# EAGLE library part MC88916 (library Custom)
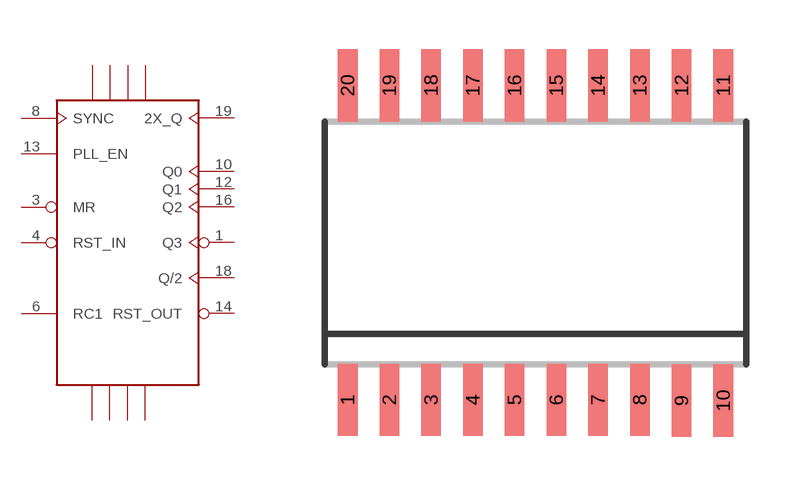
[diagram p6: symbol with the pads of SOIC20R; footprint SOIC20R]

Designator prefix -

## MC88916  [SOIC20R]
1  Q3  out
2  VCC  pwr
3  MR  in
4  RST_IN  in
5  VCC  pwr
6  RC1  out
7  GND  pwr
8  SYNC  in
9  GND  pwr
10  Q0
11  VCC  pwr
12  Q1
13  PLL_EN  in
14  RST_OUT  out
15  GND  pwr
16  Q2
17  VCC  pwr
18  Q/2
19  2X_Q  out
20  GND  pwr

## Footprint SOIC20R (pad centres in mm)
20-LeadStandard Small Outline Package SOIC Wide Body (R-20) Source: http://www.analog.com/static/imported-files/data_sheets/AD811.pdf
smd 0.6 x 2.2: 1 -5.715,-4.775; 2 -4.445,-4.775; 3 -3.175,-4.775; 4 -1.905,-4.775; 5 -0.635,-4.775; 6 0.635,-4.775; 7 1.905,-4.775; 8 3.175,-4.775; 9 4.445,-4.8; 10 5.715,-4.8; 11 5.715,4.8; 12 4.445,4.8; 13 3.175,4.8; 14 1.905,4.8; 15 0.635,4.8; 16 -0.635,4.8; 17 -1.905,4.8; 18 -3.175,4.8; 19 -4.445,4.8; 20 -5.715,4.8